# Altium schematic symbol library ATMEGA16U2-AU.SchLib: 1 symbol
Pins are listed as number, name and electrical type; pins without a type are passive.

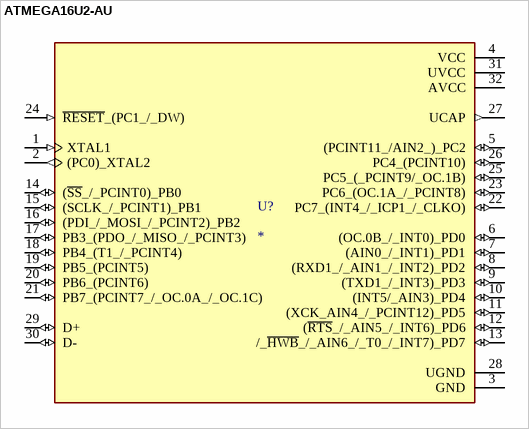
[diagram p0: symbol ATMEGA16U2-AU]

## ATMEGA16U2-AU
designator U?
AVR AVRÂ® ATmega Microcontroller IC 8-Bit 16MHz 16KB (8K x 16) FLASH 32-TQFP (7x7); MF: Microchip; MP: ATMEGA16U2-AU; Package: TQFP-32 Microchip; Price: None; Check_prices: https://www.snapeda.com/parts/ATMEGA16U2-AU/Microchip/view-part/?ref=eda; Value: *; SnapEDA_Link: https://www.snapeda.com/parts/ATMEGA16U2-AU/Microchip/view-part/?ref=snap; Availability: In Stock; Purchase-URL: https://pricing.snapeda.com/search?q=ATMEGA16U2-AU&ref=eda
footprint QFP80P900X900X120-32N
pins: 1 XTAL1 (in), 2 (PC0)_XTAL2 (out), 3 GND (power), 4 VCC (power), 5 (PCINT11_/AIN2_)_PC2 (io), 6 (OC.0B_/_INT0)_PD0 (io), 7 (AIN0_/_INT1)_PD1 (io), 8 (RXD1_/_AIN1_/_INT2)_PD2 (io), 9 (TXD1_/_INT3)_PD3 (io), 10 (INT5/_AIN3)_PD4 (io), 11 (XCK_AIN4_/_PCINT12)_PD5 (io), 12 (~{RTS}_/_AIN5_/_INT6)_PD6 (io), 13 /_~{HWB}_/_AIN6_/_T0_/_INT7)_PD7 (io), 14 (~{SS}_/_PCINT0)_PB0 (io), 15 (SCLK_/_PCINT1)_PB1 (io), 16 (PDI_/_MOSI_/_PCINT2)_PB2 (io), 17 PB3_(PDO_/_MISO_/_PCINT3) (io), 18 PB4_(T1_/_PCINT4) (io), 19 PB5_(PCINT5) (io), 20 PB6_(PCINT6) (io), 21 PB7_(PCINT7_/_OC.0A_/_OC.1C) (io), 22 PC7_(INT4_/_ICP1_/_CLKO) (io), 23 PC6_(OC.1A_/_PCINT8) (io), 24 ~{RESET}_(PC1_/_DW) (in), 25 PC5_(_PCINT9/_OC.1B) (io), 26 PC4_(PCINT10) (io), 27 UCAP (out), 28 UGND (power), 29 D+ (io), 30 D- (io), 31 UVCC (power), 32 AVCC (power)